# Altium schematic symbol library Schlib_Alpha_and_Omega.SchLib: 3 symbols
Pins are listed as number, name and electrical type; pins without a type are passive.

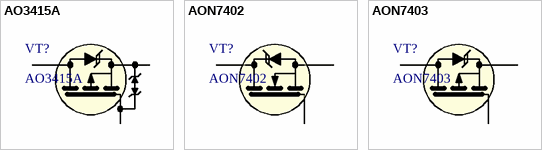
[diagram p0: symbols AO3415A to AON7403]

## AO3415A
designator VT?
P-Channel MOSFET, 20V, 5A; Manufacturer: Alpha & Omega Semiconductor; Part Number: AO3415A; Package: SOT23-3
footprint SOT23-3 (SOT23, 6-Leads, Body 2.90x2.80mm, Pitch 0.95mm, IPC Medium Density)
pins: 1 G, 2 S, 3 D

## AON7402
designator VT?
N-Channel MOSFET, 30V, 39A, 10 mOhm; Manufacturer: Alpha & Omega Semiconductor; AltManufacturer: Wayon; Alternative: WMQ20N06TS; Part Number: AON7402; Package: DFN 3x3_EP
footprint DFN3x3A_8L_EP1 (Power 3mm x 3mm)
pins: 1 S, 2 G, 3 D

## AON7403
designator VT?
P-Channel MOSFET, -30V, -29A, 18 mOhm; Manufacturer: Alpha & Omega Semiconductor; AltManufacturer: Wayon; Alternative: WMQ25P03T1; Part Number: AON7403; Package: DFN 3x3_EP
footprint PDFN8L3X3 (Power 3mm x 3mm)
pins: 1 S, 2 G, 3 D